# Altium schematic symbol library XTAL3225.SchLib: 1 symbol
Pins are listed as number, name and electrical type; pins without a type are passive.

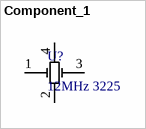
[diagram p0: symbol Component_1]

## Component_1
designator U?, comment 12MHz 3225
footprint Model Name (Footprint not found)
pins: 1, 2, 3, 4